# Altium schematic symbol library LM4040AELT-2.5.SchLib: 1 symbol
Pins are listed as number, name and electrical type; pins without a type are passive.

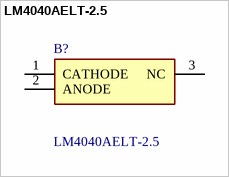
[diagram p0: symbol LM4040AELT-2.5]

## LM4040AELT-2.5
designator B?
Precision micropower shunt voltage reference; Manufacturer_Name: STMicroelectronics; Geometry.Height: 1.12mm; Manufacturer_Part_Number: LM4040AELT-2.5; Mouser Part Number: *; Mouser Price/Stock: *; Arrow Part Number: LM4040AELT-2.5; Arrow Price/Stock: https://www.arrow.com/en/products/lm4040aelt-2.5/stmicroelectronics?utm_currency=USD&region=nac; Datasheet Link: https://www.st.com/resource/en/datasheet/lm4040.pdf
footprint LM4040AELT25
pins: 1 CATHODE, 2 ANODE, 3 NC